# Altium footprint library PJ002A.PcbLib: 1 footprints
Each footprint in its own frame and in the unit in brackets; x right, y up, seen from the top. Pads: shape width x height; smd on the part's side, far side on the other; paste and mask are expansions set on the pad; w line width, h text height; cw(c..) or ccw(c..) is an arc to the next point about the centre after c.
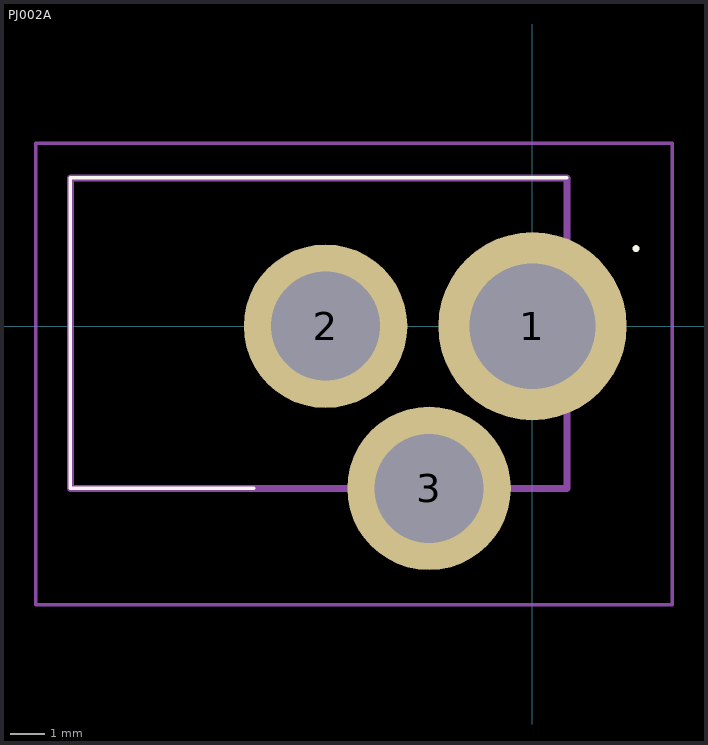
[diagram p0: the footprint, top view; thin cyan lines are the x and y axes]

## PJ002A [mm]
pads (3):
  round 5.46 hole 3.64: 1(0,0)
  round 4.74 hole 3.16: 2(-6,0) 3(-3,-4.7)
Top Overlay:
  lines w0.1: -8.08,-4.7 -13.4,-4.7 -13.4,4.3 1,4.3 ; 3,2.2 3,2.2 ; 3,2.2 ccw(c3,2.25) 3,2.3 ; 3,2.2 cw(c3,2.25) 3,2.3 ; 3,2.3 3,2.3
Mechanical 15:
  lines w0.2: -13.4,-4.7 1,-4.7 1,4.3 -13.4,4.3 -13.4,-4.7
Mechanical 20:
  lines w0.1: -14.4,-8.07 4.05,-8.07 4.05,5.3 -14.4,5.3 -14.4,-8.07